# Altium schematic symbol library CanAssist.SchLib: 3 symbols
Pins are listed as number, name and electrical type; pins without a type are passive.

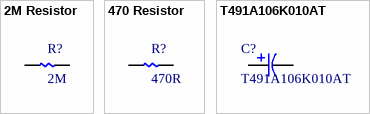
[diagram p0: symbols 2M Resistor to T491A106K010AT]

## 2M Resistor
designator R?, comment 2M
RES 2M OHM 5% 1/10W 0603; Manufacturer Part Number 1: RC0603JR-072ML; Manufacturer 1: YAGEO; Supplier 1: DigiKey; Supplier Part Number 1: 311-2.0MGRCT-ND; Supplier 2: Mouser; Supplier Part Number 2: 603-RC0603JR-072ML; Supplier 3: Avnet; Supplier Part Number 3: 49AK2948
footprint Res_0603_M (Designed to work with TE and Yageo Parts, using Yageo dimensions, Maximum Density courtyard, silk at courtyard. / Datasheet: https://www.yageogroup.com/content/Resource%20Library/Product%20Guide-Catalog/yageo_PYu-R_Mount_10_19050818_343.pdf)
footprint Res_0603_M (Designed to work with TE and Yageo Parts, using Yageo dimensions, Maximum Density courtyard, silk at courtyard. / Datasheet: https://www.yageogroup.com/content/Resource%20Library/Product%20Guide-Catalog/yageo_PYu-R_Mount_10_19050818_343.pdf)
pins: 1, 2

## 470 Resistor
designator R?, comment 470R
RES 470 OHM 1% 1/4W 0603; Manufacturer Part Number 1: CRGP0603F470R; Manufacturer 1: TE Connectivity Passive Product; Supplier 1: DigiKey; Supplier Part Number 1: A130412CT-ND
footprint Res_0603_M (Designed to work with TE and Yageo Parts, using Yageo dimensions, Maximum Density courtyard, silk at courtyard. / Datasheet: https://www.yageogroup.com/content/Resource%20Library/Product%20Guide-Catalog/yageo_PYu-R_Mount_10_19050818_343.pdf)
footprint Res_0603_M (Designed to work with TE and Yageo Parts, using Yageo dimensions, Maximum Density courtyard, silk at courtyard. / Datasheet: https://www.yageogroup.com/content/Resource%20Library/Product%20Guide-Catalog/yageo_PYu-R_Mount_10_19050818_343.pdf)
pins: 1, 2

## T491A106K010AT
designator C?
T491, Tantalum, MnO2 Tantalum, Commercial Grade, 10 uF, 10%, 10 VDC, SMD, MnO2, Molded, 3.8 Ohms, 3216, Height Max = 1.8mm; Manufacturer Name: Kemet; Copyright: Copyright (C) 2025 Ultra Librarian. All rights reserved.; Manufacturer Part Number: T491A106K010AT; Supplier 1: DigiKey; Supplier Part Number 1: 399-3684-1-ND; Supplier 2: Mouser; Supplier Part Number 2: 80-T491A106K010
footprint CAPMP3.4X1.6_1.8N_KEM-M
pins: 1, 2